# Altium footprint library PcbLib.PcbLib: 39 footprints (part 3 of 3)
Each footprint in its own frame and in the unit in brackets; x right, y up, seen from the top. Pads: shape width x height; smd on the part's side, far side on the other; paste and mask are expansions set on the pad; w line width, h text height; cw(c..) or ccw(c..) is an arc to the next point about the centre after c.
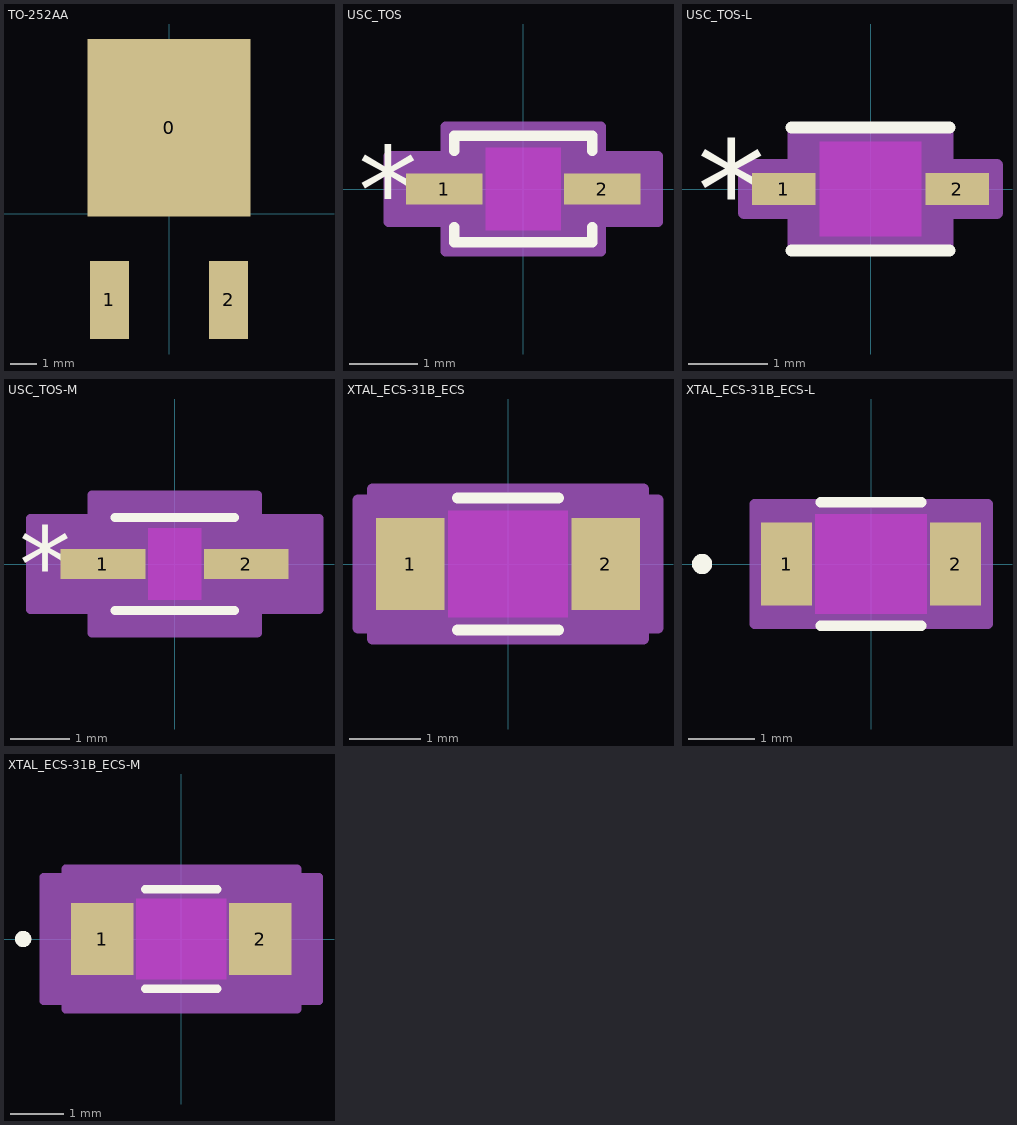
[diagram p2: the footprints below, top view; thin cyan lines are the x and y axes]

## TO-252AA [mil]
pads (3):
  rect 246x268 smd paste+0 mask+0: 0(0,130)
  rect 59x118 smd paste+0 mask+0: 1(-90,-130) 2(90,-130)
3D body "MBR10200CD_L2_00601.stp": height 92.98, standoff -0.92, extent -128.74,-147.85 128.74,242.5

## USC_TOS [mm]
pads (2):
  rect 1.111x0.451 smd paste+0 mask+0: 1(-1.15,0) 2(1.15,0)
Top Overlay:
  lines w0.152: -1.002,-0.558 -1.002,-0.777 1.002,-0.777 1.002,-0.558 ; -1.002,0.558 -1.002,0.777 1.002,0.777 1.002,0.558
  text "*" at -2.404,-0.635 h1.27
Keep-Out Layer:
  region: -0.544,-0.599 -0.544,0.599 0.544,0.599 0.544,-0.599
Mechanical 13:
  lines w0.025: -0.875,-0.325 -0.55,-0.65 ; -0.875,0.325 -0.55,0.65 ; -1.35,-0.2 -1.35,0.2 -0.875,0.2 -0.875,-0.2 -1.35,-0.2 ; -0.875,-0.65 0.875,-0.65 0.875,0.65 -0.875,0.65 -0.875,-0.65 ; 0.875,-0.2 0.875,0.2 1.35,0.2 1.35,-0.2 0.875,-0.2
  text "*" at -0.938,-0.635 h1.27
Mechanical 15:
  region: -1.129,-0.479 -1.96,-0.479 -1.96,0.479 -1.129,0.479 -1.129,0.904 1.129,0.904 1.129,0.479 1.96,0.479 1.96,-0.479 1.129,-0.479 1.129,-0.904 -1.129,-0.904
  lines w0.152: -1.96,-0.479 -1.96,0.479 -1.129,0.479 -1.129,0.904 1.129,0.904 1.129,0.479 1.96,0.479 1.96,-0.479 1.129,-0.479 1.129,-0.904 -1.129,-0.904 -1.129,-0.479 -1.96,-0.479
3D body "USC_TOS.step": height 1.1, standoff 0, extent -1.35,-0.65 1.35,0.65

## USC_TOS-L [mm]
pads (2):
  rect 0.806x0.4 smd paste+0 mask+0: 1(-1.099,0) 2(1.099,0)
Top Overlay:
  lines w0.152: -1.002,-0.777 1.002,-0.777 ; -1.002,0.777 1.002,0.777
  text "*" at -2.201,-0.635 h1.27
Keep-Out Layer:
  region: -0.645,-0.599 -0.645,0.599 0.645,0.599 0.645,-0.599
Mechanical 13:
  lines w0.025: -0.875,-0.325 -0.55,-0.65 ; -0.875,0.325 -0.55,0.65 ; -1.35,-0.2 -1.35,0.2 -0.875,0.2 -0.875,-0.2 -1.35,-0.2 ; -0.875,-0.65 0.875,-0.65 0.875,0.65 -0.875,0.65 -0.875,-0.65 ; 0.875,-0.2 0.875,0.2 1.35,0.2 1.35,-0.2 0.875,-0.2
  text "*" at -0.938,-0.635 h1.27
Mechanical 15:
  region: -0.977,-0.302 -1.604,-0.302 -1.604,0.302 -0.977,0.302 -0.977,0.752 0.977,0.752 0.977,0.302 1.604,0.302 1.604,-0.302 0.977,-0.302 0.977,-0.752 -0.977,-0.752
  lines w0.152: -1.604,-0.302 -1.604,0.302 -0.977,0.302 -0.977,0.752 0.977,0.752 0.977,0.302 1.604,0.302 1.604,-0.302 0.977,-0.302 0.977,-0.752 -0.977,-0.752 -0.977,-0.302 -1.604,-0.302
3D body "USC_TOS.step": height 1.1, standoff 0, extent -1.35,-0.65 1.35,0.65

## USC_TOS-M [mil]
pads (2):
  rect 55.75x19.75 smd paste+0 mask+0: 1(-47.28,0) 2(47.28,0)
Top Overlay:
  lines w6: -39.45,-30.59 39.45,-30.59 ; -39.45,30.59 39.45,30.59
  text "*" at -102.65,-25 h50
Keep-Out Layer:
  region: -17.4,-23.59 -17.4,23.59 17.4,23.59 17.4,-23.59
Mechanical 13:
  lines w1: -34.45,-12.8 -21.65,-25.59 ; -34.45,12.8 -21.65,25.59 ; -53.15,-7.87 -34.45,-7.87 -34.45,7.87 -53.15,7.87 -53.15,-7.87 ; -34.45,-25.59 -34.45,25.59 34.45,25.59 34.45,-25.59 -34.45,-25.59 ; 34.45,-7.87 53.15,-7.87 53.15,7.87 34.45,7.87 34.45,-7.87
  text "*" at -36.95,-25 h50
Mechanical 15:
  region: -54.45,-29.87 -95.15,-29.87 -95.15,29.87 -54.45,29.87 -54.45,45.59 54.45,45.59 54.45,29.87 95.15,29.87 95.15,-29.87 54.45,-29.87 54.45,-45.59 -54.45,-45.59
  lines w6: -95.15,-29.87 -54.45,-29.87 -54.45,-45.59 54.45,-45.59 54.45,-29.87 95.15,-29.87 95.15,29.87 54.45,29.87 54.45,45.59 -54.45,45.59 -54.45,29.87 -95.15,29.87 -95.15,-29.87
3D body "USC_TOS.step": height 43.43, standoff 0, extent -53.15,-25.59 53.15,25.59

## XTAL_ECS-31B_ECS [mil]
pads (2):
  rect 38x51 smd paste+0 mask+0: 1(-54,0) 2(54,0)
Top Layer keep-out:
  region: -33,-29.5 -33,29.5 33,29.5 33,-29.5
Top Overlay:
  lines w6: -27.89,-36.5 27.89,-36.5 ; -27.89,36.5 27.89,36.5
Keep-Out Layer:
  region: -33,-29.5 -33,29.5 33,29.5 33,-29.5
Mechanical 13:
  lines w1: -65,-31.5 -65,31.5 65,31.5 65,-31.5 -65,-31.5 ; -65,-25.5 -59,-25.5 -59,25.5 -65,25.5 -65,-25.5 ; 59,-25.5 59,25.5 65,25.5 65,-25.5 59,-25.5
Mechanical 15:
  region: -75,-35.5 -83,-35.5 -83,35.5 -75,35.5 -75,41.5 75,41.5 75,35.5 83,35.5 83,-35.5 75,-35.5 75,-41.5 -75,-41.5
  lines w6: -83,-35.5 -75,-35.5 -75,-41.5 75,-41.5 75,-35.5 83,-35.5 83,35.5 75,35.5 75,41.5 -75,41.5 -75,35.5 -83,35.5 -83,-35.5
3D body "XTAL_ECS-31B_ECS.step": height 35.12, standoff 0, extent -63.31,-31.5 63.31,31.5

## XTAL_ECS-31B_ECS-L [mil]
pads (2):
  rect 30x49 smd paste+0 mask+0: 1(-50,0) 2(50,0)
Top Layer keep-out:
  region: -33,-29.5 -33,29.5 33,29.5 33,-29.5
Top Overlay:
  circle w6: c-100,0 r3
  lines w6: -29.75,-36.5 29.75,-36.5 ; -29.75,36.5 29.75,36.5
Keep-Out Layer:
  region: -33,-29.5 -33,29.5 33,29.5 33,-29.5
Mechanical 13:
  circle w0: c-50,0 r3
  lines w1: -65,-31.5 -65,31.5 65,31.5 65,-31.5 -65,-31.5 ; -65,-25.5 -59,-25.5 -59,25.5 -65,25.5 -65,-25.5 ; 59,-25.5 59,25.5 65,25.5 65,-25.5 59,-25.5
Mechanical 15:
  region: -69,-29.5 -69,29.5 -69,35.5 69,35.5 69,29.5 69,-29.5 69,-35.5 -69,-35.5
  lines w6: -69,-35.5 69,-35.5 69,-29.5 69,29.5 69,35.5 -69,35.5 -69,29.5 -69,-29.5 -69,-35.5
3D body "XTAL_ECS-31B_ECS.step": height 35.12, standoff 0, extent -63.31,-31.5 63.31,31.5

## XTAL_ECS-31B_ECS-M [mil]
pads (2):
  rect 46x53 smd paste+0 mask+0: 1(-58,0) 2(58,0)
Top Layer keep-out:
  region: -33,-29.5 -33,29.5 33,29.5 33,-29.5
Top Overlay:
  circle w6: c-116,0 r3
  lines w6: -26.54,-36.5 26.54,-36.5 ; -26.54,36.5 26.54,36.5
Keep-Out Layer:
  region: -33,-29.5 -33,29.5 33,29.5 33,-29.5
Mechanical 13:
  circle w0: c-58,0 r3
  lines w1: -65,-31.5 65,-31.5 65,31.5 -65,31.5 -65,-31.5 ; -65,-25.5 -65,25.5 -59,25.5 -59,-25.5 -65,-25.5 ; 59,-25.5 65,-25.5 65,25.5 59,25.5 59,-25.5
Mechanical 15:
  region: -85,-45.5 -101,-45.5 -101,45.5 -85,45.5 -85,51.5 85,51.5 85,45.5 101,45.5 101,-45.5 85,-45.5 85,-51.5 -85,-51.5
  lines w6: -101,-45.5 -101,45.5 -85,45.5 -85,51.5 85,51.5 85,45.5 101,45.5 101,-45.5 85,-45.5 85,-51.5 -85,-51.5 -85,-45.5 -101,-45.5
3D body "XTAL_ECS-31B_ECS.step": height 35.12, standoff 0, extent -63.31,-31.5 63.31,31.5